# Altium footprint library ultrasonic_distance_sensors.PcbLib: 2 footprints
Each footprint in its own frame and in the unit in brackets; x right, y up, seen from the top. Pads: shape width x height; smd on the part's side, far side on the other; paste and mask are expansions set on the pad; w line width, h text height; cw(c..) or ccw(c..) is an arc to the next point about the centre after c.
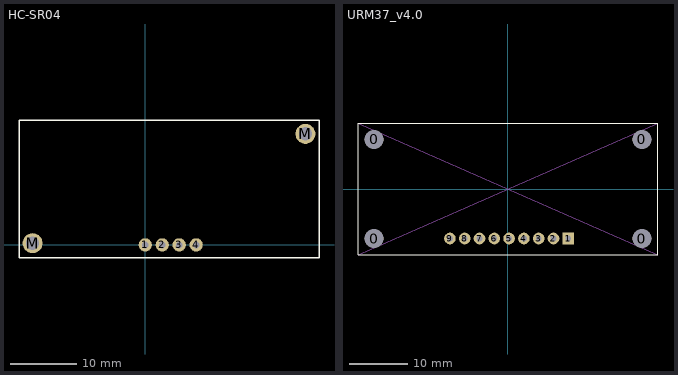
[diagram p0: the footprints below, top view; thin cyan lines are the x and y axes]

## HC-SR04 [mm]
pads (6):
  round 2 hole 1: 1(0,0) 2(2.54,0) 3(5.08,0) 4(7.62,0)
  round 3 hole 2: M(-16.891,0.254) M(24.003,16.637)
Top Overlay:
  lines w0.2: -18.923,-1.905 26.035,-1.905 26.035,18.669 -18.923,18.669 -18.923,-1.905
3D body "Samtec-TSW-104-23-F-S.STEP": height 8.38, standoff -2.92, extent -1.27,-1.27 8.89,1.27
3D body "User Library-HC-SR04.stp": height 16.3, standoff 0.95, extent -18.941,-1.821 26.059,18.704

## URM37_v4.0 [mm] "DFRobot URM37 v4.0 Ultrasonic Distance Sensor"
pads (13):
  round 3.2 hole 3.2: 0(-23,-8.5) 0(-23,8.5) 0(23,-8.5) 0(23,8.5)
  rect 2x2 hole 1: 1(10.35,-8.5)
  round 2 hole 1: 2(7.81,-8.5) 3(5.27,-8.5) 4(2.73,-8.5) 5(0.19,-8.5) 6(-2.35,-8.5) 7(-4.89,-8.5) 8(-7.43,-8.5) 9(-9.97,-8.5)
Top Overlay:
  lines w0.2: -25.75,-11.25 -25.75,11.25 25.75,11.25 25.75,-11.25 -25.75,-11.25
Mechanical 3:
  lines w0.2: -25.75,-11.25 25.75,11.25 ; -25.75,11.25 25.75,-11.25
3D body: height 16.3, standoff 4.3, extent -25.45,-8.2 -9.05,8.2
3D body: height 16.3, standoff 4.3, extent 9.05,-8.2 25.45,8.2
3D body: height 4.3, standoff 2.7, extent -25.75,-11.25 25.75,11.25
3D body "Samtec-TSW-109-23-F-S.STEP": height 5.92, standoff -5.38, extent -11.201,-9.77 11.659,-7.23